# EAGLE library part PSOC4_USB-SERIAL_BRIDGE2 (library mylib2)
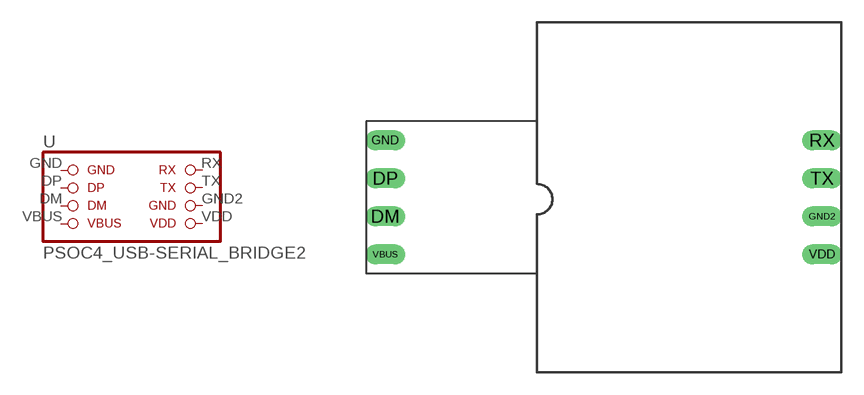
[diagram p10: symbol with the pads of PSOC4-PROTO_USB-SERIAL_BRIDGE; footprint PSOC4-PROTO_USB-SERIAL_BRIDGE]

Designator prefix -

## PSOC4_USB-SERIAL_BRIDGE2  [PSOC4-PROTO_USB-SERIAL_BRIDGE]
DM  3  pas
DP  2  pas
GND  1  pas
GND2  7  pas
RX  5  pas
TX  6  pas
VBUS  4  pas
VDD  8  pas

## Footprint PSOC4-PROTO_USB-SERIAL_BRIDGE (pad centres in mm)
drill 0.813 long: DM -21.59,-1.27; DP -21.59,1.27; GND -21.59,3.81; GND2 7.62,-1.27; RX 7.62,3.81; TX 7.62,1.27; VBUS -21.59,-3.81; VDD 7.62,-3.81